# Altium schematic symbol library yangliwei.SchLib: 32 symbols
Pins are listed as number, name and electrical type; pins without a type are passive.

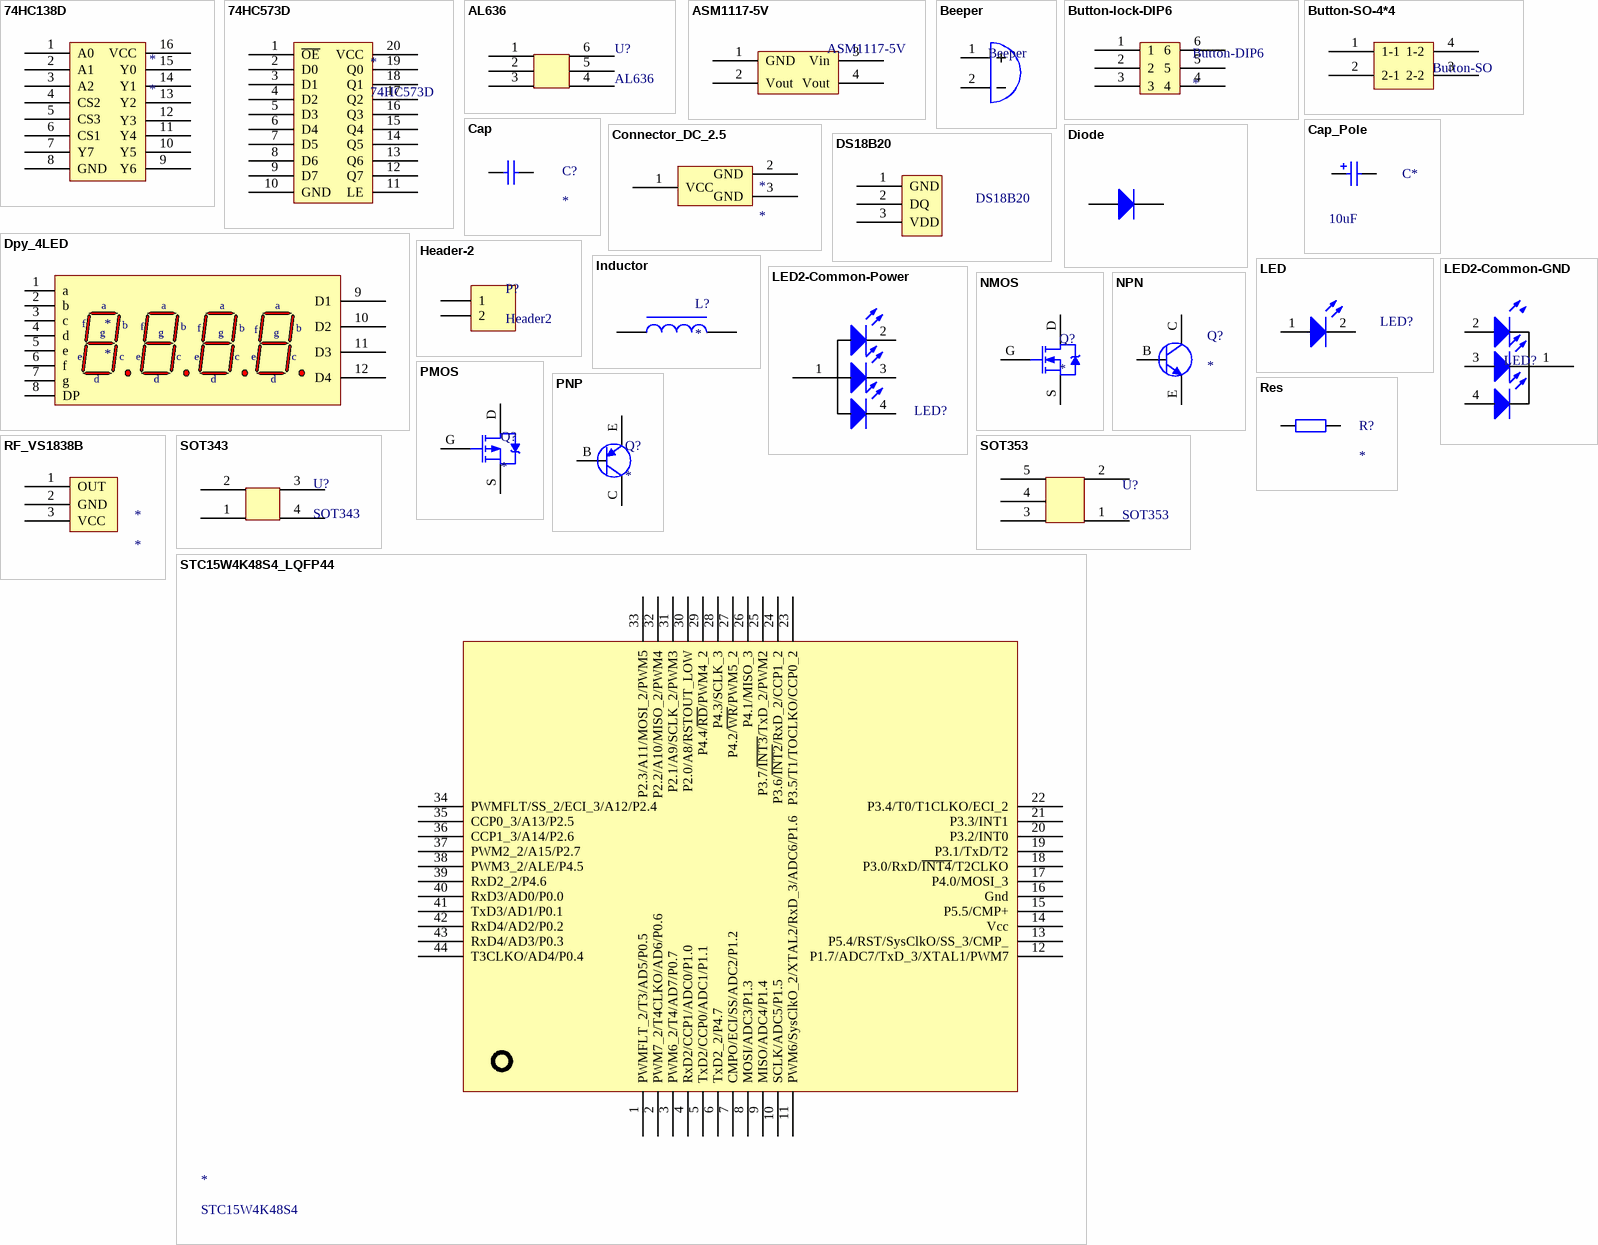
[diagram p0: symbols 74HC138D to STC15W4K48S4_LQFP44]

## 74HC138D
designator *
footprint 74HC138D_SOP
pins: 1 A0, 2 A1, 3 A2, 4 CS2, 5 CS3, 6 CS1, 7 Y7, 8 GND, 9 Y6, 10 Y5, 11 Y4, 12 Y3, 13 Y2, 14 Y1, 15 Y0, 16 VCC

## 74HC573D
designator *
footprint 74HC573D_SOP
pins: 1 ~{OE}, 2 D0, 3 D1, 4 D2, 5 D3, 6 D4, 7 D5, 8 D6, 9 D7, 10 GND, 11 LE, 12 Q7, 13 Q6, 14 Q5, 15 Q4, 16 Q3, 17 Q2, 18 Q1, 19 Q0, 20 VCC

## AL636
designator U?
footprint SOT-23-6
pins: 1, 2, 3, 4, 5, 6

## ASM1117-5V
designator ASM1117-5V  (value not drawn)
footprint SOT-223
pins: 1 GND, 2 Vout, 3 Vin, 4 Vout

## Beeper
designator Beeper  (value not drawn)
footprint Buzzer-2Pins
pins: 1 A, 2 B

## Button-lock-DIP6
designator Button-DIP6
footprint Button-lock-DIP6
pins: 1, 2, 3, 4, 5, 6

## Button-SO-4*4
designator Button-SO, comment Button-SO  (value not drawn)
footprint Button-SO-4*4 (4mm*4mm)
pins: 1 1-1, 2 2-1, 3 2-2, 4 1-2

## Cap
designator C?
cap without pole
footprint C0603 (capacity 0603)
footprint C0805 (Capacity 0805 without pole)
footprint C1206 (Capacity 1206 without pole)
pins: 1, 2

## Cap_Pole
designator C*  value 10uF  (hidden comment: Cap_Pole)
cap with pole
footprint C1206-Pole (C1206 with pole)
pins: 1, 2

## Connector_DC_2.5
designator *
footprint Connector_DC_2.5
pins: 1 VCC, 2 GND, 3 GND

## Diode
designator D?
diode
footprint SMA/DO-214AC
pins: 1, 2

## Dpy_4LED
designator *
footprint Dpy_LED4_Power
pins: 1 a "Cathode", 2 b "Cathode", 3 c "Cathode", 4 d "Cathode", 5 e "Cathode", 6 f "Cathode", 7 g "Cathode", 8 DP "Cathode", 9 D1, 10 D2, 11 D3, 12 D4

## DS18B20
designator DS18B20  (value not drawn)
footprint TO-92
pins: 1 GND, 2 DQ, 3 VDD

## Header-2
designator P?, comment Header2
Header 2
footprint PIN-2
footprint PIN-2-Power (PIN-2 for Power)
footprint PIN2-2.54-L (PIN2 2.54 Large)
pins: 1, 2

## Inductor
designator L?
Inductor without pole
footprint L-3R3 (Inductance surface 3.3uH)
pins: 1, 2

## LED
designator LED?, comment LED-0805  (value not drawn)
LED
footprint LED-0805
footprint PIN2 (Photosensitive Diode; 2 Leads)
pins: 1 A, 2 K

## LED2-Common-GND
designator LED?  (value not drawn)
footprint LED2-Commom-pole (2 LED with common pole)
pins: 1 G, 2 B, 3 G, 4 R

## LED2-Common-Power
designator LED?  (value not drawn)
footprint LED2-Commom-pole (2 LED with common pole)
pins: 1 P, 2 B, 3 G, 4 R

## NMOS
designator Q?
NMOS
footprint SOT-23/MOS (SOT-23 for Mos)
pins: D, G, S

## NPN
designator Q?
NPN
footprint SOT-23/transistor (SOT-23 for transistor)
pins: B, C, E

## PMOS
designator Q?
PMOS
footprint SOT-23/MOS (SOT-23 for Mos)
pins: D, G, S

## PNP
designator Q?
PNP
footprint SOT-23/transistor (SOT-23 for transistor)
pins: B, C, E

## Res
designator R?
Resister
footprint R0603 (Resister 0603)
footprint R0805 (Resister 0805)
pins: 1, 2

## RF_VS1838B
designator *
footprint RF_VS1838B (RF receiver)
pins: 1 OUT, 2 GND, 3 VCC

## SOT343
designator U?
footprint SOT-343
pins: 1, 2, 3, 4

## SOT353
designator U?
footprint SOT-353 (SOT-353 SC-70 5L)
pins: 1, 2, 3, 4, 5

## STC15W4K48S4_LQFP44
designator *, comment STC15W4K48S4
footprint STC15W4K48S4_LQFP44
pins: 1 PWMFLT_2/T3/AD5/P0.5, 2 PWM7_2/T4CLKO/AD6/P0.6, 3 PWM6_2/T4/AD7/P0.7, 4 RxD2/CCP1/ADC0/P1.0, 5 TxD2/CCP0/ADC1/P1.1, 6 TxD2_2/P4.7, 7 CMPO/ECI/SS/ADC2/P1.2, 8 MOSI/ADC3/P1.3, 9 MISO/ADC4/P1.4, 10 SCLK/ADC5/P1.5, 11 PWM6/SysClkO_2/XTAL2/RxD_3/ADC6/P1.6, 12 P1.7/ADC7/TxD_3/XTAL1/PWM7, 13 P5.4/RST/SysClkO/SS_3/CMP_, 14 Vcc, 15 P5.5/CMP+, 16 Gnd, 17 P4.0/MOSI_3, 18 P3.0/RxD/~{INT4}/T2CLKO, 19 P3.1/TxD/T2, 20 P3.2/INT0, 21 P3.3/INT1, 22 P3.4/T0/T1CLKO/ECI_2, 23 P3.5/T1/TOCLKO/CCP0_2, 24 P3.6/~{INT2}/RxD_2/CCP1_2, 25 P3.7/~{INT3}/TxD_2/PWM2, 26 P4.1/MISO_3, 27 P4.2/~{WR}/PWM5_2, 28 P4.3/SCLK_3, 29 P4.4/~{RD}/PWM4_2, 30 P2.0/A8/RSTOUT_LOW, 31 P2.1/A9/SCLK_2/PWM3, 32 P2.2/A10/MISO_2/PWM4, 33 P2.3/A11/MOSI_2/PWM5, 34 PWMFLT/SS_2/ECI_3/A12/P2.4, 35 CCP0_3/A13/P2.5, 36 CCP1_3/A14/P2.6, 37 PWM2_2/A15/P2.7, 38 PWM3_2/ALE/P4.5, 39 RxD2_2/P4.6, 40 RxD3/AD0/P0.0, 41 TxD3/AD1/P0.1, 42 RxD4/AD2/P0.2, 43 RxD4/AD3/P0.3, 44 T3CLKO/AD4/P0.4

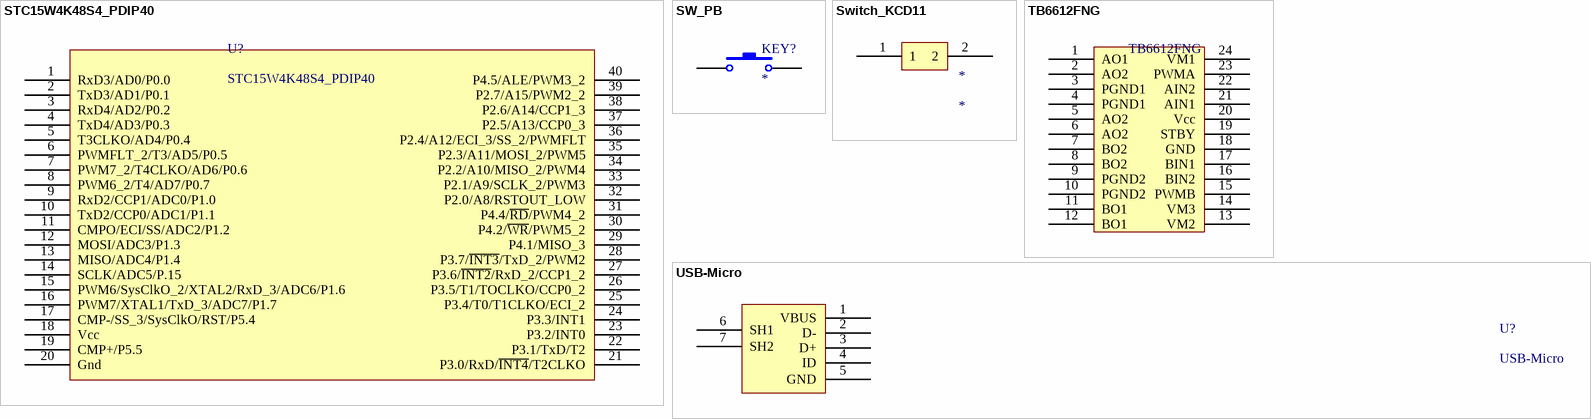
[diagram p1: symbols STC15W4K48S4_PDIP40 to USB-Micro]

## STC15W4K48S4_PDIP40
designator U?
STC15W4K48S4
footprint STC15W4K48S4_DIP40
pins: 1 RxD3/AD0/P0.0, 2 TxD3/AD1/P0.1, 3 RxD4/AD2/P0.2, 4 TxD4/AD3/P0.3, 5 T3CLKO/AD4/P0.4, 6 PWMFLT_2/T3/AD5/P0.5, 7 PWM7_2/T4CLKO/AD6/P0.6, 8 PWM6_2/T4/AD7/P0.7, 9 RxD2/CCP1/ADC0/P1.0, 10 TxD2/CCP0/ADC1/P1.1, 11 CMPO/ECI/SS/ADC2/P1.2, 12 MOSI/ADC3/P1.3, 13 MISO/ADC4/P1.4, 14 SCLK/ADC5/P.15, 15 PWM6/SysClkO_2/XTAL2/RxD_3/ADC6/P1.6, 16 PWM7/XTAL1/TxD_3/ADC7/P1.7, 17 CMP-/SS_3/SysClkO/RST/P5.4, 18 Vcc, 19 CMP+/P5.5, 20 Gnd, 21 P3.0/RxD/~{INT4}/T2CLKO, 22 P3.1/TxD/T2, 23 P3.2/INT0, 24 P3.3/INT1, 25 P3.4/T0/T1CLKO/ECI_2, 26 P3.5/T1/TOCLKO/CCP0_2, 27 P3.6/~{INT2}/RxD_2/CCP1_2, 28 P3.7/~{INT3}/TxD_2/PWM2, 29 P4.1/MISO_3, 30 P4.2/~{WR}/PWM5_2, 31 P4.4/~{RD}/PWM4_2, 32 P2.0/A8/RSTOUT_LOW, 33 P2.1/A9/SCLK_2/PWM3, 34 P2.2/A10/MISO_2/PWM4, 35 P2.3/A11/MOSI_2/PWM5, 36 P2.4/A12/ECI_3/SS_2/PWMFLT, 37 P2.5/A13/CCP0_3, 38 P2.6/A14/CCP1_3, 39 P2.7/A15/PWM2_2, 40 P4.5/ALE/PWM3_2

## SW_PB
designator KEY?
Switch PB
footprint KFC-A04-10 (Switch KFC-A04-10 surface)
pins: 1, 2

## Switch_KCD11
designator *
footprint Switch_KCD11 (3A 25V)
pins: 1, 2

## TB6612FNG
designator TB6612FNG  (value not drawn)
footprint ssop24 (SSOP24)
pins: 1 AO1, 2 AO2, 3 PGND1, 4 PGND1, 5 AO2, 6 AO2, 7 BO2, 8 BO2, 9 PGND2, 10 PGND2, 11 BO1, 12 BO1, 13 VM2, 14 VM3, 15 PWMB, 16 BIN2, 17 BIN1, 18 GND, 19 STBY, 20 Vcc, 21 AIN1, 22 AIN2, 23 PWMA, 24 VM1

## USB-Micro
designator U?
USB Micro
footprint USB-Micro-Surface (USB Micro with surface package)
pins: 1 VBUS, 2 D-, 3 D+, 4 ID, 5 GND, 6 SH1, 7 SH2